# Altium footprint library 16z_addons.PcbLib: 3 footprints
Each footprint in its own frame and in the unit in brackets; x right, y up, seen from the top. Pads: shape width x height; smd on the part's side, far side on the other; paste and mask are expansions set on the pad; w line width, h text height; cw(c..) or ccw(c..) is an arc to the next point about the centre after c.
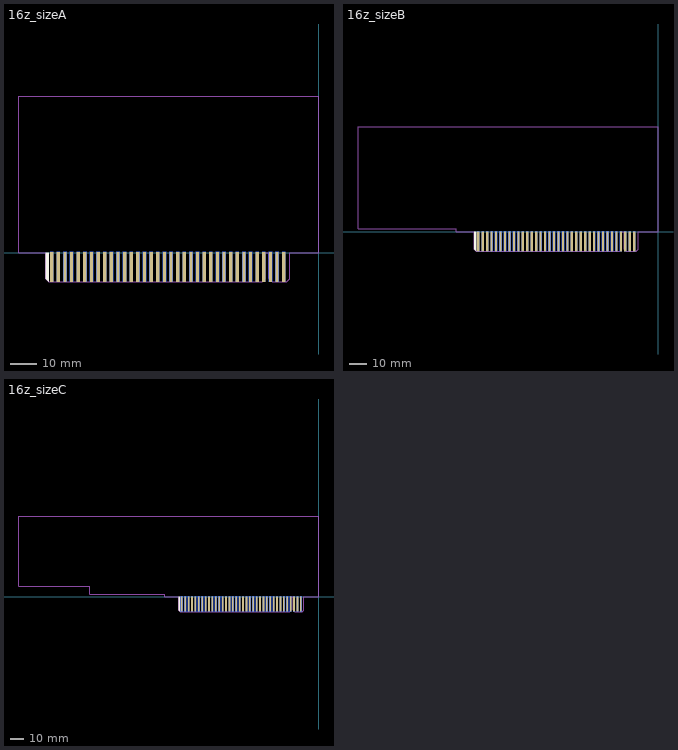
[diagram p0: the footprints below, top view; thin cyan lines are the x and y axes]

## 16z_sizeA [mm] "Toyaga 16z add-on card size A (115mm length)"
height 60
pads (72):
  rect 1.25x11.5 smd: 1(-102.45,-5.458) 3(-99.91,-5.458) 5(-97.37,-5.458) 7(-94.83,-5.458) 9(-92.29,-5.458) 11(-89.75,-5.458) 13(-87.21,-5.458) 15(-84.67,-5.458) 17(-82.13,-5.458) 19(-79.59,-5.458) 21(-77.05,-5.458) 23(-74.51,-5.458) 25(-71.97,-5.458) 27(-69.43,-5.458) 29(-66.89,-5.458) 31(-64.35,-5.458) 33(-61.81,-5.458) 35(-59.27,-5.458) 37(-56.73,-5.458) 39(-54.19,-5.458) 41(-51.65,-5.458) 43(-49.11,-5.458) 45(-46.57,-5.458) 47(-44.03,-5.458) 49(-41.49,-5.458) 51(-38.95,-5.458) 53(-36.41,-5.458) 55(-33.87,-5.458) 57(-31.33,-5.458) 59(-28.79,-5.458) 61(-26.25,-5.458) 63(-23.71,-5.458) 65(-21.17,-5.458) 67(-18.63,-5.458) 69(-16.09,-5.458) 71(-13.55,-5.458)
  rect 1.25x11.5 smd far side: 2(-102.45,-5.458) 4(-99.91,-5.458) 6(-97.37,-5.458) 8(-94.83,-5.458) 10(-92.29,-5.458) 12(-89.75,-5.458) 14(-87.21,-5.458) 16(-84.67,-5.458) 18(-82.13,-5.458) 20(-79.59,-5.458) 22(-77.05,-5.458) 24(-74.51,-5.458) 26(-71.97,-5.458) 28(-69.43,-5.458) 30(-66.89,-5.458) 32(-64.35,-5.458) 34(-61.81,-5.458) 36(-59.27,-5.458) 38(-56.73,-5.458) 40(-54.19,-5.458) 42(-51.65,-5.458) 44(-49.11,-5.458) 46(-46.57,-5.458) 48(-44.03,-5.458) 50(-41.49,-5.458) 52(-38.95,-5.458) 54(-36.41,-5.458) 56(-33.87,-5.458) 58(-31.33,-5.458) 60(-28.79,-5.458) 62(-26.25,-5.458) 64(-23.71,-5.458) 66(-21.17,-5.458) 68(-18.63,-5.458) 70(-16.09,-5.458) 72(-13.55,-5.458)
Top Overlay:
  region: -103.566,-11.2 -103.566,-0.034 -103.6,0 -104.736,0 -104.736,-10.03
Bottom Overlay:
  region: -103.566,-11.2 -103.566,-0.034 -103.6,0 -104.736,0 -104.736,-10.03
Drill Guide:
  text "EXTERNAL CONNECTOR SIDE" at 4,8 h2
Mechanical 1:
  lines w0.25: -115,0 -104.736,0 -104.736,-10.03 -103.566,-11.2 -21.832,-11.2 -20.535,-9.903 -20.535,0 -19.265,0 -19.265,-9.903 -17.968,-11.2 -12.434,-11.2 -11.264,-10.03 -11.264,0 0,0 0,60 -115,60 -115,0

## 16z_sizeB [mm] "Toyaga 16z add-on card size B (171mm length)"
height 60
pads (72):
  rect 1.25x11.5 smd: 1(-102.45,-5.458) 3(-99.91,-5.458) 5(-97.37,-5.458) 7(-94.83,-5.458) 9(-92.29,-5.458) 11(-89.75,-5.458) 13(-87.21,-5.458) 15(-84.67,-5.458) 17(-82.13,-5.458) 19(-79.59,-5.458) 21(-77.05,-5.458) 23(-74.51,-5.458) 25(-71.97,-5.458) 27(-69.43,-5.458) 29(-66.89,-5.458) 31(-64.35,-5.458) 33(-61.81,-5.458) 35(-59.27,-5.458) 37(-56.73,-5.458) 39(-54.19,-5.458) 41(-51.65,-5.458) 43(-49.11,-5.458) 45(-46.57,-5.458) 47(-44.03,-5.458) 49(-41.49,-5.458) 51(-38.95,-5.458) 53(-36.41,-5.458) 55(-33.87,-5.458) 57(-31.33,-5.458) 59(-28.79,-5.458) 61(-26.25,-5.458) 63(-23.71,-5.458) 65(-21.17,-5.458) 67(-18.63,-5.458) 69(-16.09,-5.458) 71(-13.55,-5.458)
  rect 1.25x11.5 smd far side: 2(-102.45,-5.458) 4(-99.91,-5.458) 6(-97.37,-5.458) 8(-94.83,-5.458) 10(-92.29,-5.458) 12(-89.75,-5.458) 14(-87.21,-5.458) 16(-84.67,-5.458) 18(-82.13,-5.458) 20(-79.59,-5.458) 22(-77.05,-5.458) 24(-74.51,-5.458) 26(-71.97,-5.458) 28(-69.43,-5.458) 30(-66.89,-5.458) 32(-64.35,-5.458) 34(-61.81,-5.458) 36(-59.27,-5.458) 38(-56.73,-5.458) 40(-54.19,-5.458) 42(-51.65,-5.458) 44(-49.11,-5.458) 46(-46.57,-5.458) 48(-44.03,-5.458) 50(-41.49,-5.458) 52(-38.95,-5.458) 54(-36.41,-5.458) 56(-33.87,-5.458) 58(-31.33,-5.458) 60(-28.79,-5.458) 62(-26.25,-5.458) 64(-23.71,-5.458) 66(-21.17,-5.458) 68(-18.63,-5.458) 70(-16.09,-5.458) 72(-13.55,-5.458)
Top Overlay:
  region: -103.566,-11.2 -103.566,-0.034 -103.6,0 -104.736,0 -104.736,-10.03
Bottom Overlay:
  region: -103.566,-11.2 -103.566,-0.034 -103.6,0 -104.736,0 -104.736,-10.03
Drill Guide:
  text "EXTERNAL CONNECTOR SIDE" at 4,8 h2
Mechanical 1:
  lines w0.25: -171,1.8 -115,1.8 -115,0 -104.736,0 -104.736,-10.03 -103.566,-11.2 -21.832,-11.2 -20.535,-9.903 -20.535,0 -19.265,0 -19.265,-9.903 -17.968,-11.2 -12.434,-11.2 -11.264,-10.03 -11.264,0 0,0 0,60 -171,60 -171,1.8

## 16z_sizeC [mm] "Toyaga 16z add-on card size C (224mm length)"
height 60
pads (72):
  rect 1.25x11.5 smd: 1(-102.45,-5.458) 3(-99.91,-5.458) 5(-97.37,-5.458) 7(-94.83,-5.458) 9(-92.29,-5.458) 11(-89.75,-5.458) 13(-87.21,-5.458) 15(-84.67,-5.458) 17(-82.13,-5.458) 19(-79.59,-5.458) 21(-77.05,-5.458) 23(-74.51,-5.458) 25(-71.97,-5.458) 27(-69.43,-5.458) 29(-66.89,-5.458) 31(-64.35,-5.458) 33(-61.81,-5.458) 35(-59.27,-5.458) 37(-56.73,-5.458) 39(-54.19,-5.458) 41(-51.65,-5.458) 43(-49.11,-5.458) 45(-46.57,-5.458) 47(-44.03,-5.458) 49(-41.49,-5.458) 51(-38.95,-5.458) 53(-36.41,-5.458) 55(-33.87,-5.458) 57(-31.33,-5.458) 59(-28.79,-5.458) 61(-26.25,-5.458) 63(-23.71,-5.458) 65(-21.17,-5.458) 67(-18.63,-5.458) 69(-16.09,-5.458) 71(-13.55,-5.458)
  rect 1.25x11.5 smd far side: 2(-102.45,-5.458) 4(-99.91,-5.458) 6(-97.37,-5.458) 8(-94.83,-5.458) 10(-92.29,-5.458) 12(-89.75,-5.458) 14(-87.21,-5.458) 16(-84.67,-5.458) 18(-82.13,-5.458) 20(-79.59,-5.458) 22(-77.05,-5.458) 24(-74.51,-5.458) 26(-71.97,-5.458) 28(-69.43,-5.458) 30(-66.89,-5.458) 32(-64.35,-5.458) 34(-61.81,-5.458) 36(-59.27,-5.458) 38(-56.73,-5.458) 40(-54.19,-5.458) 42(-51.65,-5.458) 44(-49.11,-5.458) 46(-46.57,-5.458) 48(-44.03,-5.458) 50(-41.49,-5.458) 52(-38.95,-5.458) 54(-36.41,-5.458) 56(-33.87,-5.458) 58(-31.33,-5.458) 60(-28.79,-5.458) 62(-26.25,-5.458) 64(-23.71,-5.458) 66(-21.17,-5.458) 68(-18.63,-5.458) 70(-16.09,-5.458) 72(-13.55,-5.458)
Top Overlay:
  region: -103.566,-11.2 -103.566,-0.034 -103.6,0 -104.736,0 -104.736,-10.03
Bottom Overlay:
  region: -103.566,-11.2 -103.566,-0.034 -103.6,0 -104.736,0 -104.736,-10.03
Drill Guide:
  text "EXTERNAL CONNECTOR SIDE" at 4,8 h2
Mechanical 1:
  lines w0.25: -224,7.8 -171,7.8 -171,1.8 -115,1.8 -115,0 -104.736,0 -104.736,-10.03 -103.566,-11.2 -21.832,-11.2 -20.535,-9.903 -20.535,0 -19.265,0 -19.265,-9.903 -17.968,-11.2 -12.434,-11.2 -11.264,-10.03 -11.264,0 0,0 0,60 -224,60 -224,7.8